# EAGLE library part NA555P (library C3-Ti)
PRECISION TIMERS
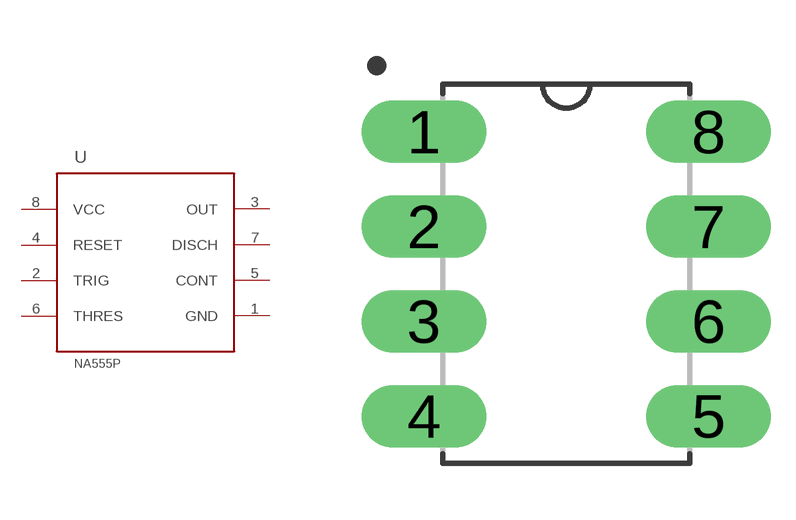
[diagram p13: symbol with the pads of DIP254P762X508-8; footprint DIP254P762X508-8]

Designator prefix U

## NA555P (MPN: NA555P; OC_FARNELL: 1755011; OC_NEWARK: 06M7353; PACKAGE: PDIP-8; SUPPLIER: Texas Instruments)  [DIP254P762X508-8]
1  GND  pwr
2  TRIG  in
3  OUT  out
4  RESET  in
5  CONT  in
6  THRES  in
7  DISCH  out
8  VCC  pwr

## Footprint DIP254P762X508-8 (pad centres in mm)
drill 1.118 long: 1 -3.81,3.81; 2 -3.81,1.27; 3 -3.81,-1.27; 4 -3.81,-3.81; 5 3.81,-3.81; 6 3.81,-1.27; 7 3.81,1.27; 8 3.81,3.81